# Altium schematic symbol library EL-sense_ESD_Suppressors.SchLib: 8 symbols
Pins are listed as number, name and electrical type; pins without a type are passive.

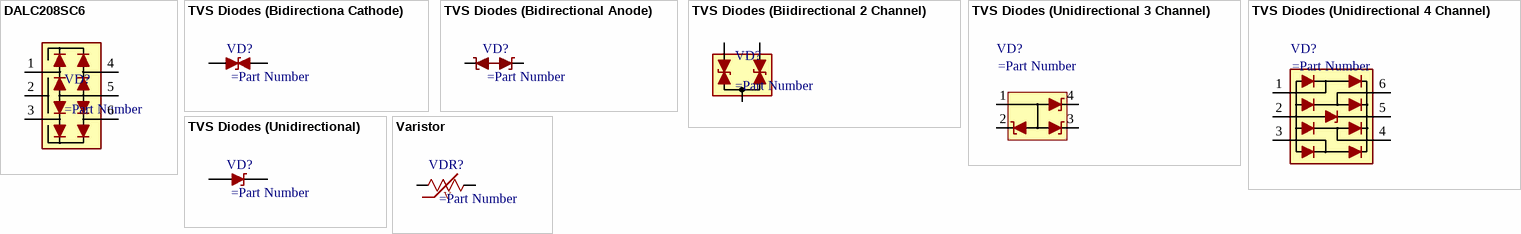
[diagram p0: symbols DALC208SC6 to Varistor]

## DALC208SC6
designator VD?
pins: 1, 2, 3, 4, 5, 6

## TVS Diodes (Bidirectiona Cathode)
designator VD?
pins: 1, 2

## TVS Diodes (Bidirectional Anode)
designator VD?
pins: 1, 2

## TVS Diodes (Biidirectional 2 Channel)
designator VD?
pins: 1, 2, 3

## TVS Diodes (Unidirectional 3 Channel)
designator VD?
pins: 1, 2, 3, 4

## TVS Diodes (Unidirectional 4 Channel)
designator VD?
pins: 1, 2, 3, 4, 5, 6

## TVS Diodes (Unidirectional)
designator VD?
pins: 1, 2

## Varistor
designator VDR?
pins: 1, 2
text: V